# Altium footprint library LED.PcbLib: 1 footprints
Each footprint in its own frame and in the unit in brackets; x right, y up, seen from the top. Pads: shape width x height; smd on the part's side, far side on the other; paste and mask are expansions set on the pad; w line width, h text height; cw(c..) or ccw(c..) is an arc to the next point about the centre after c.
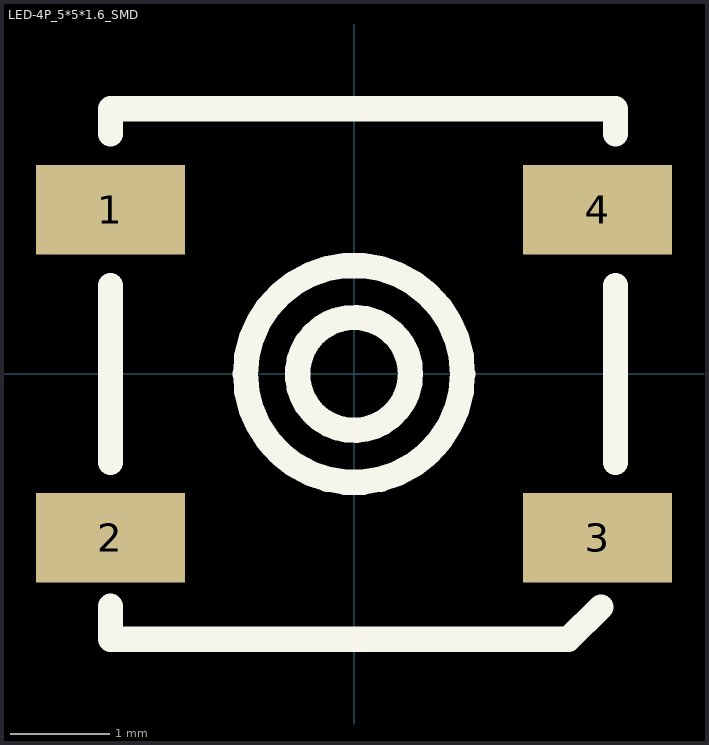
[diagram p0: the footprint, top view; thin cyan lines are the x and y axes]

## LED-4P_5*5*1.6_SMD [mm]
pads (4):
  rect 1.5x0.9 smd: 1(-2.45,1.65) 2(-2.45,-1.65) 3(2.45,-1.65) 4(2.45,1.65)
Top Overlay:
  circle w0.254: c0,0 r0.568
  circle w0.254: c0,0 r1.092
  lines w0.254: -2.45,-2.338 -2.45,-2.668 1.778,-2.668 2.158,-2.668 2.483,-2.343 ; -2.45,-0.89 -2.45,0.888 ; -2.45,2.412 -2.45,2.666 2.63,2.666 2.63,2.412 ; 2.63,-0.89 2.63,0.888
3D body "User Library-APA102C.step": height 1.53, standoff -0.02, extent -2.685,-2.512 2.815,2.488